# Altium footprint library WiirdFlex.PcbLib: 79 footprints (part 5 of 5)
Each footprint in its own frame and in the unit in brackets; x right, y up, seen from the top. Pads: shape width x height; smd on the part's side, far side on the other; paste and mask are expansions set on the pad; w line width, h text height; cw(c..) or ccw(c..) is an arc to the next point about the centre after c.
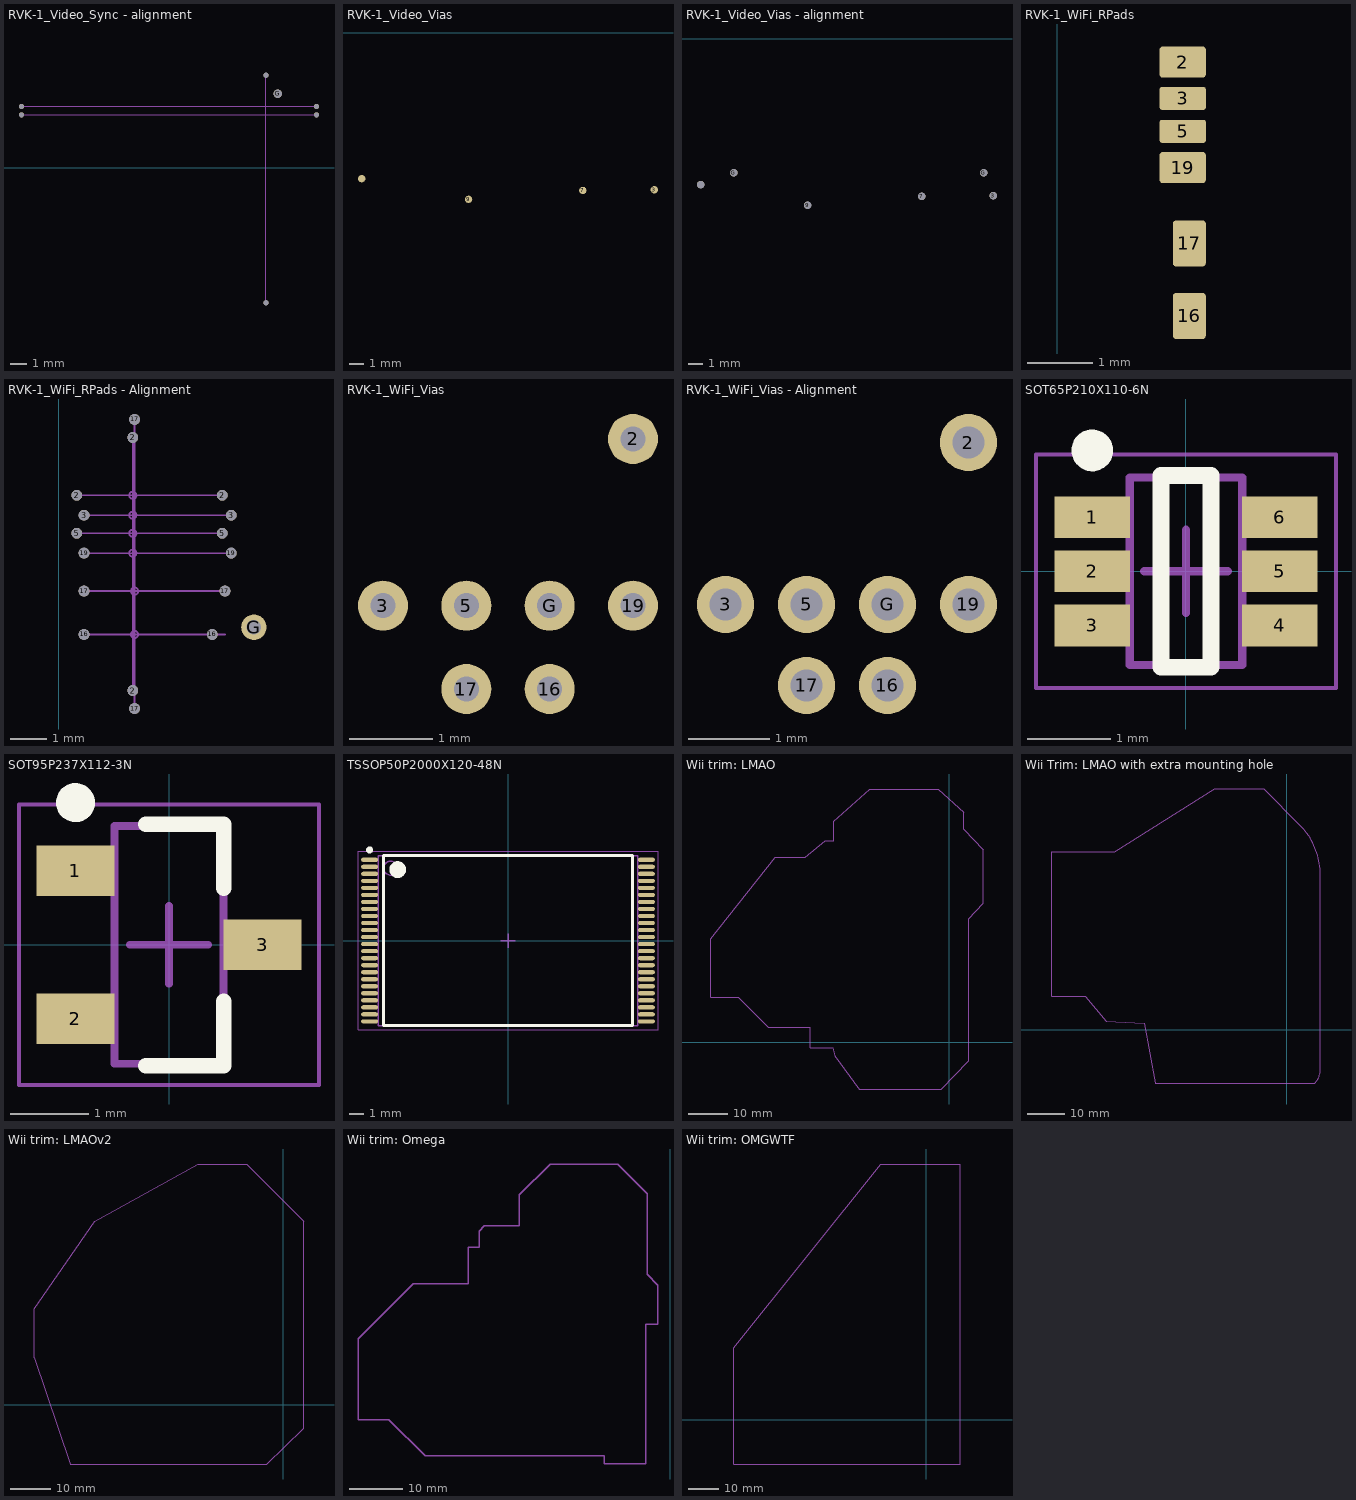
[diagram p4: the footprints below, top view; thin cyan lines are the x and y axes]

## RVK-1_Video_Sync - alignment [mm]
pads (7):
  round 0.3 hole 0.3 unplated: 1(-22.5,3.65) 1(-8,-8) 1(-8,5.5) 1(-5,3.65) 2(-22.5,3.15) 2(-5,3.15)
  round 0.5 hole 0.5 unplated: G(-7.3,4.4)
Mechanical 1:
  lines w0.05: -22.5,3.15 -5,3.15 ; -22.5,3.65 -5,3.65 ; -8,-8 -8,5.5

## RVK-1_Video_Vias [mm]
pads (4):
  round 0.5 smd: 3(-7.5,-10.65) 7(-12.35,-10.7) 9(-20.1,-11.3) 11(-27.35,-9.9)

## RVK-1_Video_Vias - alignment [mm]
pads (6):
  round 0.5 hole 0.5 unplated: 3(-7.5,-10.65) 7(-12.35,-10.7) 9(-20.1,-11.3) 11(-27.35,-9.9) G(-25.1,-9.1) G(-8.15,-9.1)

## RVK-1_WiFi_RPads [mm]
pads (6):
  rrect20% 0.7x0.475 smd: 2(1.9,31.5) 19(1.9,29.9)
  rrect20% 0.7x0.35 smd: 3(1.9,30.95) 5(1.9,30.45)
  rrect20% 0.5x0.7 smd: 16(2,27.65) 17(2,28.75)

## RVK-1_WiFi_RPads - Alignment [mm]
pads (17):
  round 0.3 hole 0.3 unplated: 2(0.5,31.4) 2(2.05,26) 2(2.05,33) 2(4.525,31.4) 3(0.7,30.85) 3(4.775,30.85) 5(0.5,30.35) 5(4.525,30.35) 16(0.7,27.55) 16(4.25,27.55) 17(0.7,28.75) 17(2.1,25.5) 17(2.1,33.5) 17(4.6,28.75) 19(0.7,29.8) 19(4.775,29.8)
  round 0.705 hole 0.4: G(5.4,27.75)
Mechanical 1:
  circle w0.05: c2.05,31.4 r0.1
  circle w0.05: c2.05,30.85 r0.1
  circle w0.05: c2.05,30.35 r0.1
  circle w0.05: c2.05,29.8 r0.1
  circle w0.05: c2.1,28.75 r0.1
  circle w0.05: c2.1,27.55 r0.1
  lines w0.05: 0.6,27.55 4.6,27.55 ; 0.6,28.75 4.6,28.75 ; 0.65,29.8 4.65,29.8 ; 0.65,30.35 4.65,30.35 ; 0.65,30.85 4.65,30.85 ; 0.65,31.4 4.65,31.4 ; 2.05,26 2.05,33 ; 2.1,25.5 2.1,33.5

## RVK-1_WiFi_Vias [mm]
pads (7):
  round 0.6 hole 0.3: 2(-6.5,30.9) 3(-9.5,28.9) 5(-8.5,28.9) 16(-7.5,27.9) 17(-8.5,27.9) 19(-6.5,28.9) G(-7.5,28.9)

## RVK-1_WiFi_Vias - Alignment [mm]
pads (7):
  round 0.705 hole 0.4: 2(-6.5,30.9) 3(-9.5,28.9) 5(-8.5,28.9) 16(-7.5,27.9) 17(-8.5,27.9) 19(-6.5,28.9) G(-7.5,28.9)

## SOT65P210X110-6N [mm] "SOT23, 6-Leads, Body 2.03x2.10mm, Pitch 0.65mm, IPC Medium Density"
height 1.1
pads (6):
  rect 0.9x0.5 smd: 1(-1.125,0.65) 2(-1.125,0) 3(-1.125,-0.65) 4(1.125,-0.65) 5(1.125,0) 6(1.125,0.65)
Top Overlay:
  circle w0.25: c-1.125,1.45 r0.125
  lines w0.2: -0.3,-1.15 0.3,-1.15 0.3,1.15 -0.3,1.15 -0.3,-1.15
Top Assembly:
  lines w0.1: -0.675,-1.125 -0.675,1.125 0.675,1.125 0.675,-1.125 -0.675,-1.125
Top Courtyard:
  lines w0.05: -1.8,-1.4 -1.8,1.4 1.8,1.4 1.8,-1.4 -1.8,-1.4
  lines w0.1: -0.5,0 0.5,0 ; 0,-0.5 0,0.5
3D body: height 1.1, standoff 0.05, extent -0.675,-1.125 0.675,1.125

## SOT95P237X112-3N [mm] "SOT23, 3-Leads, Body 2.86x2.37mm, Pitch 0.95mm, IPC Medium Density"
height 1.12
pads (3):
  rect 1x0.65 smd: 1(-1.2,0.95) 2(-1.2,-0.95) 3(1.2,0)
Top Overlay:
  circle w0.25: c-1.2,1.825 r0.125
  lines w0.2: -0.3,-1.55 0.7,-1.55 0.7,-0.725 ; -0.3,1.55 0.7,1.55 0.7,0.725
Top Assembly:
  lines w0.1: -0.7,-1.525 0.7,-1.525 0.7,1.525 -0.7,1.525 -0.7,-1.525
Top Courtyard:
  lines w0.05: -1.925,-1.8 1.925,-1.8 1.925,1.8 -1.925,1.8 -1.925,-1.8
  lines w0.1: -0.5,0 0.5,0 ; 0,-0.5 0,0.5
3D body: height 1.12, standoff 0.1, extent -0.7,-1.525 0.7,1.525

## TSSOP50P2000X120-48N [mm] "TSSOP, 48-Leads, Body 12.02x18.40mm, Pitch 0.50mm, IPC Medium Density"
height 1.2
pads (48):
  oval 1.2x0.3 smd: 1(-9.85,5.75) 2(-9.85,5.25) 3(-9.85,4.75) 4(-9.85,4.25) 5(-9.85,3.75) 6(-9.85,3.25) 7(-9.85,2.75) 8(-9.85,2.25) 9(-9.85,1.75) 10(-9.85,1.25) 11(-9.85,0.75) 12(-9.85,0.25) 13(-9.85,-0.25) 14(-9.85,-0.75) 15(-9.85,-1.25) 16(-9.85,-1.75) 17(-9.85,-2.25) 18(-9.85,-2.75) 19(-9.85,-3.25) 20(-9.85,-3.75) 21(-9.85,-4.25) 22(-9.85,-4.75) 23(-9.85,-5.25) 24(-9.85,-5.75) 25(9.85,-5.75) 26(9.85,-5.25) 27(9.85,-4.75) 28(9.85,-4.25) 29(9.85,-3.75) 30(9.85,-3.25) 31(9.85,-2.75) 32(9.85,-2.25) 33(9.85,-1.75) 34(9.85,-1.25) 35(9.85,-0.75) 36(9.85,-0.25) 37(9.85,0.25) 38(9.85,0.75) 39(9.85,1.25) 40(9.85,1.75) 41(9.85,2.25) 42(9.85,2.75) 43(9.85,3.25) 44(9.85,3.75) 45(9.85,4.25) 46(9.85,4.75) 47(9.85,5.25) 48(9.85,5.75)
Top Overlay:
  circle w0.6: c-7.85,5.05 r0.3
  circle w0.25: c-9.85,6.45 r0.125
  lines w0.2: -8.85,-6.05 8.85,-6.05 8.85,6.05 -8.85,6.05 -8.85,-6.05
Top Assembly:
  circle w0.1: c-8.35,5.15 r0.5
  lines w0.1: -9.25,-6.05 9.25,-6.05 9.25,6.05 -9.25,6.05 -9.25,-6.05
Top Courtyard:
  lines w0.05: -10.675,-6.35 10.675,-6.35 10.675,6.35 -10.675,6.35 -10.675,-6.35
  lines w0.1: -0.5,0 0.5,0 ; 0,-0.5 0,0.5
3D body "TSSOP50P2000X120-48N.step": height 1.2, standoff 0, extent -10,-6.05 10,6.05

## Wii trim: LMAO [mm] "LMAO trim outline, from ShockSlayer's guide at https://bitbuilt.net/forums/index.php?threads/lmaov2-and-nand-relocation-guide.1961/"
Mechanical 1:
  lines w0.254: -61,11.5 -54,11.5 -46.25,3.75 -35.5,3.75 -35.5,-1.5 -29.75,-1.5 -29.25,-3.5 -23,-12 -2,-12 5,-4.75 5,31.5 8.75,35.5 8.75,49.25 3.75,54.5 3.75,58.75 -2.75,64.75 -20.25,64.75 -29.5,56.5 -29.5,51.5 -31.75,51.5 -36.75,47.25 -44.5,47.25 -61,26.5 -61,11.5

## Wii Trim: LMAO with extra mounting hole [mm] "LMAO trim outline, from jefflongo's worklog at https://bitbuilt.net/forums/index.php?threads/wii-pocket.2709/"
Mechanical 1:
  lines w0.254: -63.5,9 -54.5,9 -48.75,2.25 -38.5,1.75 -35.5,-14.5 7.5,-14.5 ccw(c3.879,-10.879) 9,-10.879 9,37.5 9,41.972 ccw(c-9.778,41.972) 3.5,55.25 -6.25,65 -19.5,65 -46.5,48 -63.5,48 -63.5,9

## Wii trim: LMAOv2 [mm] "LMAO v2 trim outline, from ShockSlayer's guide at https://bitbuilt.net/forums/index.php?threads/lmaov2-and-nand-relocation-guide.1961/"
Mechanical 1:
  lines w0.254: -61,11.5 -52.25,-14.5 -4,-14.5 5,-5.75 5,45 -9,59 -21,59 -46.25,45 -61,23.5 -61,11.5

## Wii trim: Omega [mm] "Omega trim outline, from images in ShockSlayer's post: https://bitbuilt.net/forums/index.php?threads/a-very-merwii-christmas.864/"
Mechanical 1:
  lines w0.254: -58,12 -52.25,12 -45.5,5.25 -12.25,5.25 -12.25,3.75 -5.5,3.75 -4.5,3.75 -4.5,29.75 -2.25,29.75 -2.25,37 -4.25,39 -4.25,54 -9.75,59.5 -22.25,59.5 -28,53.75 -28,48 -34.5,48 -35.5,47 -35.5,44 -37.5,44 -37.5,37.25 -47.75,37.25 -58,27 -58,12

## Wii trim: OMGWTF [mm] "OMGWTF trim outline, from ShockSlayer's guide at https://bitbuilt.net/forums/index.php?threads/lmaov2-and-nand-relocation-guide.1961/"
Mechanical 1:
  lines w0.254: -63.25,-14.5 -63.25,23.75 -15,84 11.25,84 11.25,-14.5 -63.25,-14.5